# Altium schematic symbol library Tigershark3D.SchLib: 71 symbols
Pins are listed as number, name and electrical type; pins without a type are passive.

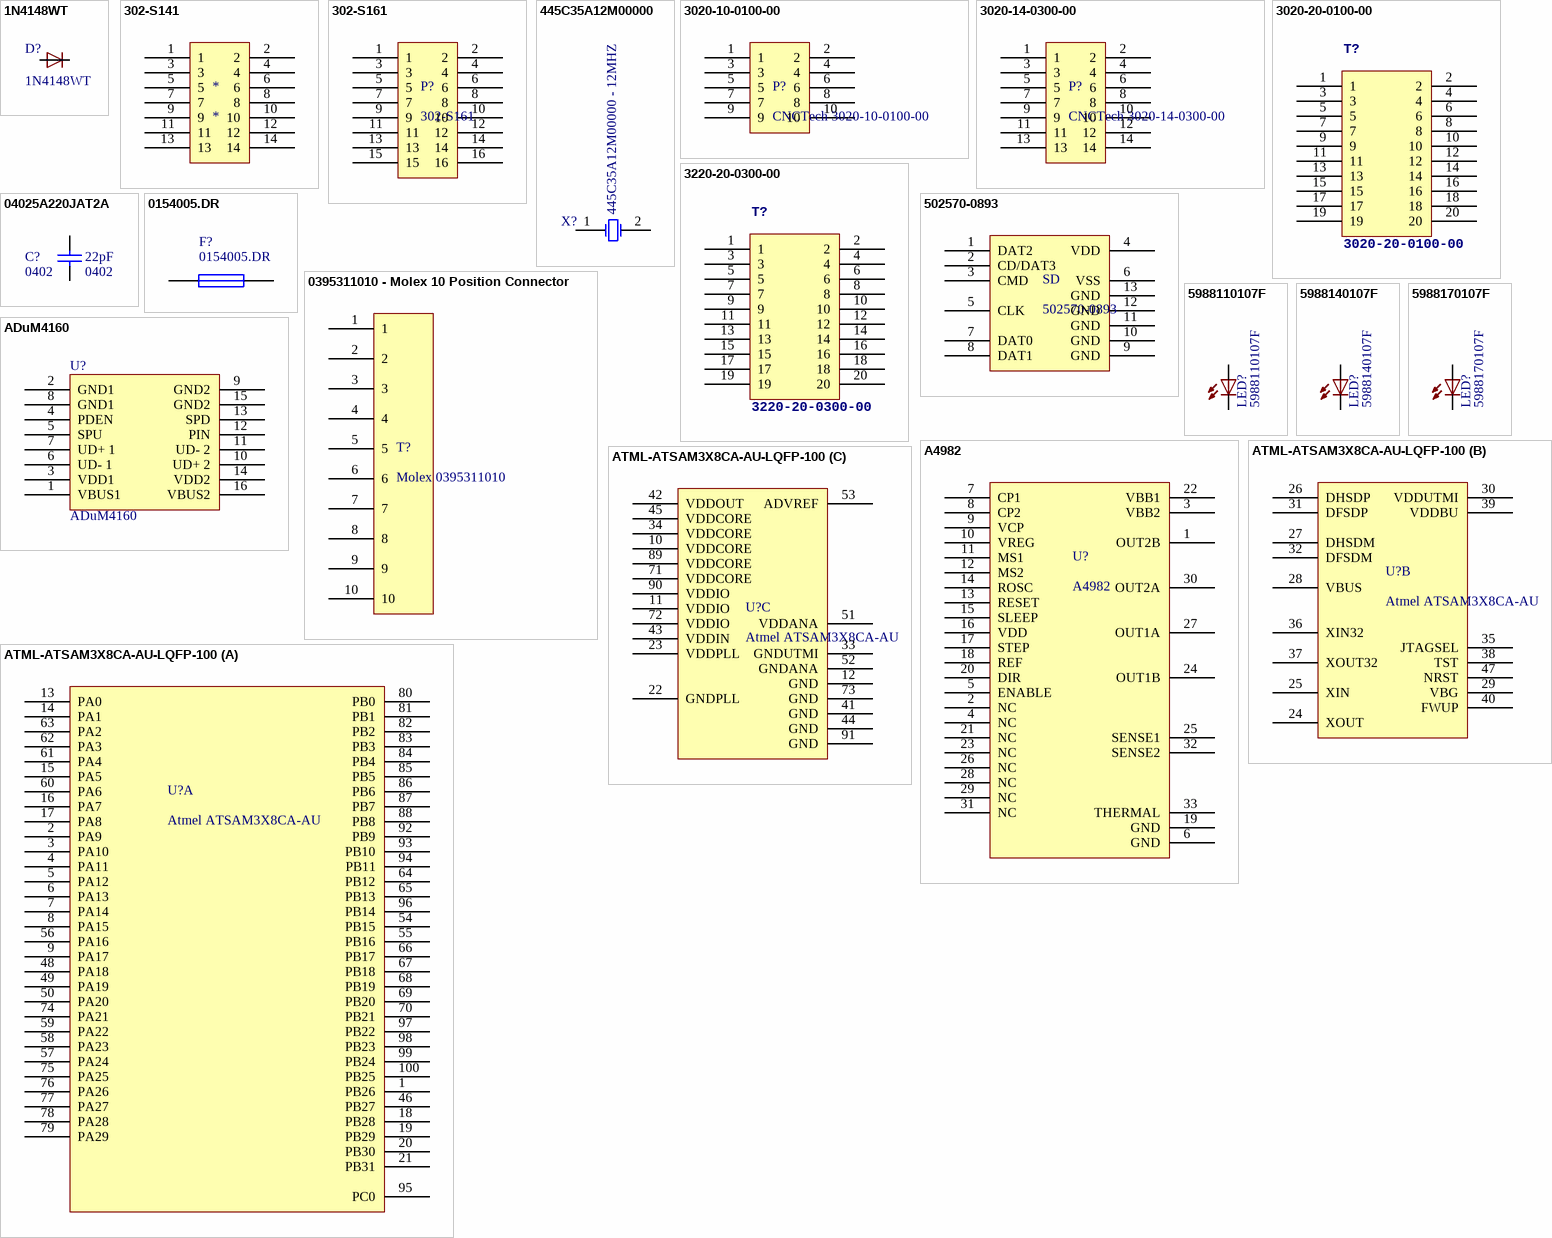
[diagram p0: symbols 1N4148WT to ATML-ATSAM3X8CA-AU-LQFP-100]

## 1N4148WT
designator D?
DIODE SOD523; LastRevisionNote: ImportComponents; Published: 23-Apr-2014; Publisher: UltiMachine; LastRevisionDate: 23-Apr-2014; Value: 1N4148WT
footprint SOD523
pins: A, C

## 302-S141
designator *
Manufacture Part #: 302-S141; Manufacturer: On Shore Technology Inc; Value: 2.54mm Pitch Spacing; Datasheet: http://www.on-shore.com/sites/default/files/manuals/302-sxxx.pdf; Digikey Part #: ED10522-ND; Pin Count: 14; Type: Throughhole connector; Mount Type: Through hole; Price: $0.32; Height: 9.1mm
footprint 302-S141 (2.54mm pitch 2X7 1 Pin Shrouded Connector)
pins: 1, 2, 3, 4, 5, 6, 7, 8, 9, 10, 11, 12, 13, 14

## 302-S161
designator P?
16 Pos 2.54mm Pin Connector Shrouded; Manufacturer: On Shore Technology Inc; Value: 2.54mm Pitch Spacing; Manufacture Part #: 302-S161; Datasheet: http://www.on-shore.com/sites/default/files/manuals/302-sxxx.pdf; Digikey Part #: ED10522-ND; Pin Count: 16; Type: Throughhole connector; Mount Type: Through hole; Price: $0.40; Height: 9.1mm
footprint 302-S161 (2.54mm pitch 2X8 1 Pin Shrouded Connector)
pins: 1, 2, 3, 4, 5, 6, 7, 8, 9, 10, 11, 12, 13, 14, 15, 16

## 445C35A12M00000
designator X?, comment 445C35A12M00000 - 12MHZ
445C35A12M00000 12MHZ Crystal Oscillator; Published: 8-Jun-2000; LatestRevisionDate: 17-Jul-2002; LatestRevisionNote: Re-released for DXP Platform.; PackageReference: R38; Publisher: Altium Limited; PackageDescription: Crystal, Thru-Hole; 2 Leads; Body 3.1 x 8.2 mm (Dia.xH); Manufacture Part #: *
footprint R38 (Crystal, Thru-Hole; 2 Leads; Body 3.1 x 8.2 mm (Dia.xH))
simulation model XTAL (Spice Subcircuit)
footprint 445C35A12M00000 (Crystal Oscillator)
pins: 1 OSC1, 2 OSC2

## 3020-10-0100-00
designator P?, comment CNCTech 3020-10-0100-00
Manufacture Part #: 3020-10-0100-00; Manufacturer: CNCTech; Type: SMD Shrouded Pin Header; Pin Count: 10; Price: $0.48; Digikey Part #: 1175-1609-ND
footprint 3020-10-0100-00 (2.54mm pitch 2X5 1 Pin Shrouded Connector)
pins: 1, 2, 3, 4, 5, 6, 7, 8, 9, 10

## 3020-14-0300-00
designator P?, comment CNCTech 3020-14-0300-00
Manufacture Part #: 3020-14-0300-00; Manufacturer: CNCTech; Type: SMD Shrouded Pin Header; Pin Count: 14; Price: $0.58; Digikey Part #: 1175-1622-ND
footprint 3020-14-0300-00 (CNC Tech 14 Pin 2.54mm shrouded SMT connector)
pins: 1, 2, 3, 4, 5, 6, 7, 8, 9, 10, 11, 12, 13, 14

## 3020-20-0100-00
designator T?
CNCTech 3020-20-0100-00; LastRevisionNote: ImportComponents; Published: 23-Apr-2014; Publisher: UltiMachine; LastRevisionDate: 23-Apr-2014; Manufacturer: CNCTech; Manufacture Part #: 3020-20-0100-00
footprint 3020-20-0100-00 (2.54mm pitch 2X10 1 Pin Shrouded Connector)
pins: 1, 2, 3, 4, 5, 6, 7, 8, 9, 10, 11, 12, 13, 14, 15, 16, 17, 18, 19, 20

## 3220-20-0300-00
designator T?
HDR 20pos Vert Dual Row SMT; Manufacture Part #: RSB39VTE-17; LastRevisionNote: ImportComponents; Published: 23-Apr-2014; Publisher: UltiMachine; LastRevisionDate: 23-Apr-2014
footprint 3220-20-0300-00 -AVR (CNC Tech 1.27mm Spacing 20 Pin Shrouded Connector Part# 3220-20-0300-00)
pins: 1, 2, 3, 4, 5, 6, 7, 8, 9, 10, 11, 12, 13, 14, 15, 16, 17, 18, 19, 20

## 04025A220JAT2A
designator C?, comment 0402  value 22pF
CAP CER 0402 22pF 50V 5% C0G; Manufacture Part #: 04025A220JAT2A; Manufacturer: AVX; Voltage: 16v; Published: 10 - Dec - 2014; LatestRevisionDate: 10 - Dec - 2014; LatestRevisionNote: Ultimachine Footprint Added; Publisher: Ultimachine; Component Type: Chip Capacitor; Part Description: CAP CER 0402 22pF 50V 5% C0G; Mounting Type: SMT 0402; Datasheet: http://www.farnell.com/datasheets/759117.pdf; Height: 0.25 ± 0.15mm; Tolerance: 5%; PackageReference: 0402
simulation model CAP (Semiconductor Capacitor)
signal-integrity model Cap Semi
footprint C0402
pins: 1, 2

## 0154005.DR
designator F?
0154005.DR LittleFuse; Manufacture: LittleFuse Inc.; Tolerance: 5A; Type: Fuse; Lead-Free: Yes; Voltage: 24V 5A; Datasheet: http://www.littelfuse.com/~/media/electronics/datasheets/fuses/littelfuse_fuse_154_154t_154l_154tl_datasheet.pdf.pdf; Mounting Type: SMD; Status: Active; Pin Count: 2; Height: 3.81mm; Cost: 0.98863
simulation model FUSE (Spice Subcircuit)
footprint 0154005.DR (LittleFuse 0154005.DR)
pins: 1, 2

## 502570-0893
designator SD
microSD 502570-0893 Molex Part
footprint 502570-0893 - Molex SD (Molex SD Card Footprint 502570-0893)
pins: 1 DAT2, 2 CD/DAT3, 3 CMD, 4 VDD, 5 CLK, 6 VSS, 7 DAT0, 8 DAT1, 9 GND, 10 GND, 11 GND, 12 GND, 13 GND

## 0395311010 - Molex 10 Position Connector
designator T?, comment Molex 0395311010
MSBTV10 10 port connector same as RAMBo; Manufacture: Molex; Mounting Type: Through Hole; Part Number: 0395311010; Datasheet: http://www.molex.com/pdm_docs/sd/395311002_sd.pdf; Status: Active; Pin Count: 10 , 5.08mm pitch; Height: *; Lead Free: YES; Cost: 2.46000
footprint MSTBV10
pins: 1, 2, 3, 4, 5, 6, 7, 8, 9, 10

## 5988110107F
designator LED?
LED 0805 Red; LastRevisionNote: ImportComponents; Published: 23-Apr-2014; Publisher: UltiMachine; LastRevisionDate: 23-Apr-2014; VALUE: 5988110107F
footprint LED2012120
pins: A, C

## 5988140107F
designator LED?
LED 0805 Yellow; LastRevisionNote: ImportComponents; Published: 23-Apr-2014; Publisher: UltiMachine; LastRevisionDate: 23-Apr-2014; VALUE: 5988140107F
footprint LED2012120
pins: A, C

## 5988170107F
designator LED?
LED 0805 Green; LastRevisionNote: ImportComponents; Published: 23-Apr-2014; Publisher: UltiMachine; LastRevisionDate: 23-Apr-2014; VALUE: 5988170107F
footprint LED2012120
pins: A, C

## A4982
designator U?
Alllegor A4982 Stepper Driver
footprint QFN50P508X508X100_HS-33N (QFN, 32-Leads, Body 5.08x5.08mm, Pitch 0.50mm, Thermal Pad 3.40x3.40mm, IPC Medium Density)
footprint QFN32_050050
pins: 1 OUT2B, 2 NC, 3 VBB2, 4 NC, 5 ENABLE, 6 GND, 7 CP1, 8 CP2, 9 VCP, 10 VREG, 11 MS1, 12 MS2, 13 RESET, 14 ROSC, 15 SLEEP, 16 VDD, 17 STEP, 18 REF, 19 GND, 20 DIR, 21 NC, 22 VBB1, 23 NC, 24 OUT1B, 25 SENSE1, 26 NC, 27 OUT1A, 28 NC, 29 NC, 30 OUT2A, 31 NC, 32 SENSE2, 33 THERMAL

## ADuM4160
designator U?
ADI iCoupler - USB 2.0 Galvanic Isolator
footprint ADUM4160BRWZ-RL (SOIC ADI iCouopler Package BRWZ-RL)
pins: 1 VBUS1, 2 GND1, 3 VDD1, 4 PDEN, 5 SPU, 6 UD- 1, 7 UD+ 1, 8 GND1, 9 GND2, 10 UD+ 2, 11 UD- 2, 12 PIN, 13 SPD, 14 VDD2, 15 GND2, 16 VBUS2

## ATML-ATSAM3X8CA-AU-LQFP-100
designator U?, comment Atmel ATSAM3X8CA-AU
Atmel ARM Cortex M3 MCU ATSAM3X8CA-AU; Manufacture: Atmel; Manufacture Part #: ATSAM3X8CA-AU; Type: ARM Cortex M3 Microcontroller; Mounting Type: SMT TQFP; Package Type: TQFP100; Datasheet: http://www.atmel.com/Images/doc11057s.pdf
footprint ATSAM3X8CA-AU TQFP100 (TSQFP, 100-Leads, Body 14.00x14.00mm, Pitch 0.50mm, IPC Medium Density)
part A pins: 1 PB26, 2 PA9, 3 PA10, 4 PA11, 5 PA12, 6 PA13, 7 PA14, 8 PA15, 9 PA17, 13 PA0, 14 PA1, 15 PA5, 16 PA7, 17 PA8, 18 PB28, 19 PB29, 20 PB30, 21 PB31, 46 PB27, 48 PA18, 49 PA19, 50 PA20, 54 PB15, 55 PB16, 56 PA16, 57 PA24, 58 PA23, 59 PA22, 60 PA6, 61 PA4, 62 PA3, 63 PA2, 64 PB12, 65 PB13, 66 PB17, 67 PB18, 68 PB19, 69 PB20, 70 PB21, 74 PA21, 75 PA25, 76 PA26, 77 PA27, 78 PA28, 79 PA29, 80 PB0, 81 PB1, 82 PB2, 83 PB3, 84 PB4, 85 PB5, 86 PB6, 87 PB7, 88 PB8, 92 PB9, 93 PB10, 94 PB11, 95 PC0, 96 PB14, 97 PB22, 98 PB23, 99 PB24, 100 PB25
part B pins: 24 XOUT, 25 XIN, 26 DHSDP, 27 DHSDM, 28 VBUS, 29 VBG, 30 VDDUTMI, 31 DFSDP, 32 DFSDM, 35 JTAGSEL, 36 XIN32, 37 XOUT32, 38 TST, 39 VDDBU, 40 FWUP, 47 NRST
part C pins: 10 VDDCORE, 11 VDDIO, 12 GND, 22 GNDPLL, 23 VDDPLL, 33 GNDUTMI, 34 VDDCORE, 41 GND, 42 VDDOUT, 43 VDDIN, 44 GND, 45 VDDCORE, 51 VDDANA, 52 GNDANA, 53 ADVREF, 71 VDDCORE, 72 VDDIO, 73 GND, 89 VDDCORE, 90 VDDIO, 91 GND

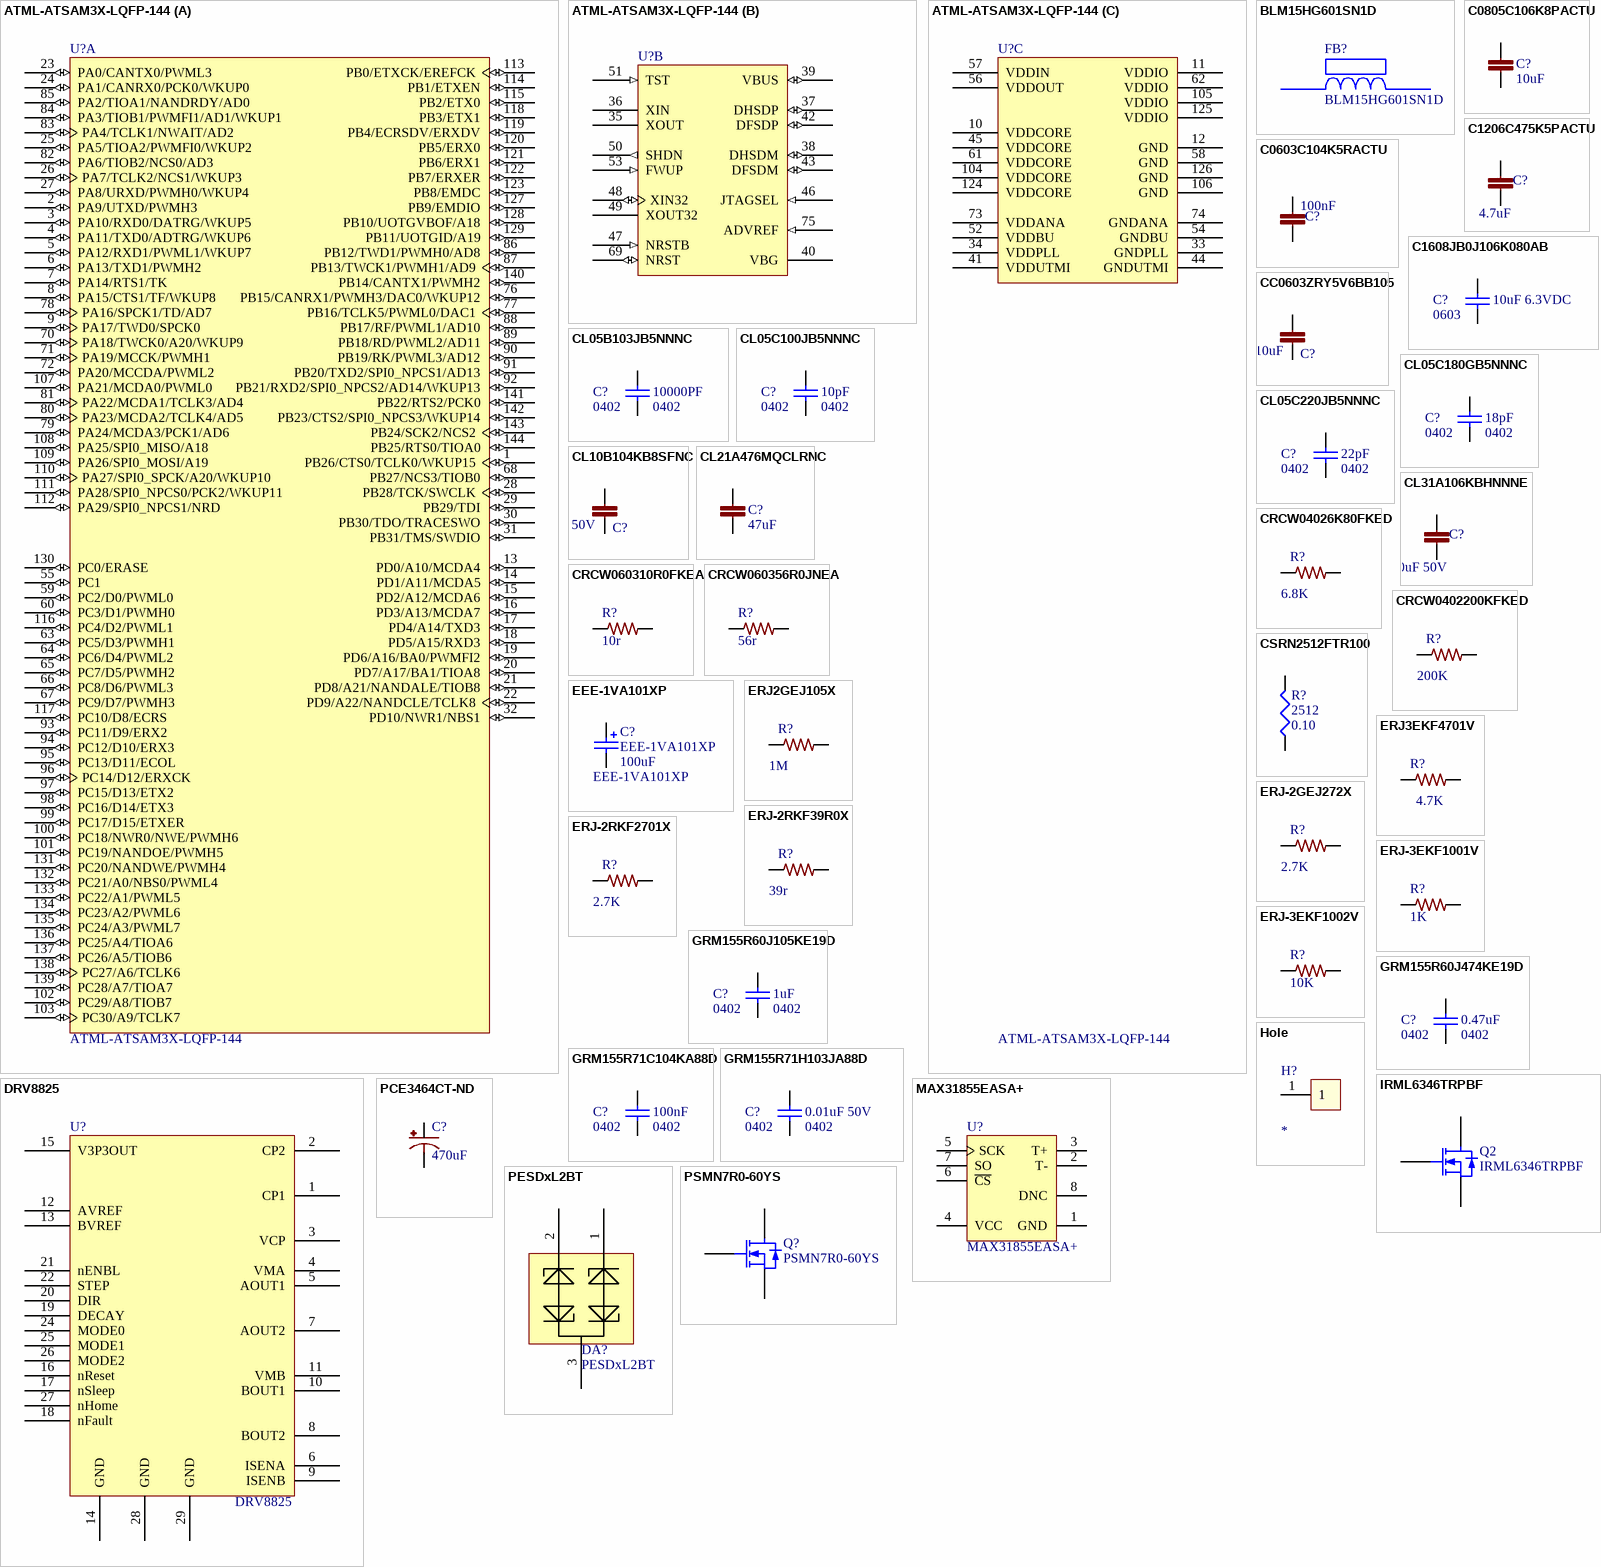
[diagram p1: symbols ATML-ATSAM3X-LQFP-144 to PSMN7R0-60YS]

## ATML-ATSAM3X-LQFP-144
designator U?
Part Number: ATSAM3X8E-AU; Manufacture: Atmel Corporation; Voltage: 3.3v; Status: Active; Pin Count: 144; Mounting Type: SMD TQFP; Datasheet: http://www.atmel.com/Images/doc11057.pdf; Height: 1.35mm; Tolerance: N/A; Type: ARM Cortex M3 MCU / Integrated Circuit; Lead Free: YES; Cost: 12
footprint LQFP144_N (Thin QFP, 144-Leads, Body 20x20mm, Pitch 0.5mm, IPC Medium Density)
part A pins: 1 PB26/CTS0/TCLK0/WKUP15 (io), 2 PA9/UTXD/PWMH3 (io), 3 PA10/RXD0/DATRG/WKUP5 (io), 4 PA11/TXD0/ADTRG/WKUP6 (io), 5 PA12/RXD1/PWML1/WKUP7 (io), 6 PA13/TXD1/PWMH2 (io), 7 PA14/RTS1/TK (io), 8 PA15/CTS1/TF/WKUP8 (io), 9 PA17/TWD0/SPCK0 (io), 13 PD0/A10/MCDA4 (io), 14 PD1/A11/MCDA5 (io), 15 PD2/A12/MCDA6 (io), 16 PD3/A13/MCDA7 (io), 17 PD4/A14/TXD3 (io), 18 PD5/A15/RXD3 (io), 19 PD6/A16/BA0/PWMFI2 (io), 20 PD7/A17/BA1/TIOA8 (io), 21 PD8/A21/NANDALE/TIOB8 (io), 22 PD9/A22/NANDCLE/TCLK8 (io), 23 PA0/CANTX0/PWML3 (io), 24 PA1/CANRX0/PCK0/WKUP0 (io), 25 PA5/TIOA2/PWMFI0/WKUP2 (io), 26 PA7/TCLK2/NCS1/WKUP3 (io), 27 PA8/URXD/PWMH0/WKUP4 (io), 28 PB28/TCK/SWCLK (io), 29 PB29/TDI (io), 30 PB30/TDO/TRACESWO (io), 31 PB31/TMS/SWDIO (io), 32 PD10/NWR1/NBS1 (io), 55 PC1 (io), 59 PC2/D0/PWML0 (io), 60 PC3/D1/PWMH0 (io), 63 PC5/D3/PWMH1 (io), 64 PC6/D4/PWML2 (io), 65 PC7/D5/PWMH2 (io), 66 PC8/D6/PWML3 (io), 67 PC9/D7/PWMH3 (io), 68 PB27/NCS3/TIOB0 (io), 70 PA18/TWCK0/A20/WKUP9 (io), 71 PA19/MCCK/PWMH1 (io), 72 PA20/MCCDA/PWML2 (io), 76 PB15/CANRX1/PWMH3/DAC0/WKUP12 (io), 77 PB16/TCLK5/PWML0/DAC1 (io), 78 PA16/SPCK1/TD/AD7 (io), 79 PA24/MCDA3/PCK1/AD6 (io), 80 PA23/MCDA2/TCLK4/AD5 (io), 81 PA22/MCDA1/TCLK3/AD4 (io), 82 PA6/TIOB2/NCS0/AD3 (io), 83 PA4/TCLK1/NWAIT/AD2 (io), 84 PA3/TIOB1/PWMFI1/AD1/WKUP1 (io), 85 PA2/TIOA1/NANDRDY/AD0 (io), 86 PB12/TWD1/PWMH0/AD8 (io), 87 PB13/TWCK1/PWMH1/AD9 (io), 88 PB17/RF/PWML1/AD10 (io), 89 PB18/RD/PWML2/AD11 (io), 90 PB19/RK/PWML3/AD12 (io), 91 PB20/TXD2/SPI0_NPCS1/AD13 (io), 92 PB21/RXD2/SPI0_NPCS2/AD14/WKUP13 (io), 93 PC11/D9/ERX2 (io), 94 PC12/D10/ERX3 (io), 95 PC13/D11/ECOL (io), 96 PC14/D12/ERXCK (io), 97 PC15/D13/ETX2 (io), 98 PC16/D14/ETX3 (io), 99 PC17/D15/ETXER (io), 100 PC18/NWR0/NWE/PWMH6 (io), 101 PC19/NANDOE/PWMH5 (io), 102 PC29/A8/TIOB7 (io), 103 PC30/A9/TCLK7 (io), 107 PA21/MCDA0/PWML0 (io), 108 PA25/SPI0_MISO/A18 (io), 109 PA26/SPI0_MOSI/A19 (io), 110 PA27/SPI0_SPCK/A20/WKUP10 (io), 111 PA28/SPI0_NPCS0/PCK2/WKUP11 (io), 112 PA29/SPI0_NPCS1/NRD (io), 113 PB0/ETXCK/EREFCK (io), 114 PB1/ETXEN (io), 115 PB2/ETX0 (io), 116 PC4/D2/PWML1 (io), 117 PC10/D8/ECRS (io), 118 PB3/ETX1 (io), 119 PB4/ECRSDV/ERXDV (io), 120 PB5/ERX0 (io), 121 PB6/ERX1 (io), 122 PB7/ERXER (io), 123 PB8/EMDC (io), 127 PB9/EMDIO (io), 128 PB10/UOTGVBOF/A18 (io), 129 PB11/UOTGID/A19 (io), 130 PC0/ERASE (io), 131 PC20/NANDWE/PWMH4 (io), 132 PC21/A0/NBS0/PWML4 (io), 133 PC22/A1/PWML5 (io), 134 PC23/A2/PWML6 (io), 135 PC24/A3/PWML7 (io), 136 PC25/A4/TIOA6 (io), 137 PC26/A5/TIOB6 (io), 138 PC27/A6/TCLK6 (io), 139 PC28/A7/TIOA7 (io), 140 PB14/CANTX1/PWMH2 (io), 141 PB22/RTS2/PCK0 (io), 142 PB23/CTS2/SPI0_NPCS3/WKUP14 (io), 143 PB24/SCK2/NCS2 (io), 144 PB25/RTS0/TIOA0 (io)
part B pins: 35 XOUT "Main Oscillator Output", 36 XIN "Main Oscillator Input", 37 DHSDP (io) "USB High Speed Data +", 38 DHSDM (io) "USB High Speed Data -", 39 VBUS (io) "USB Bus Power Measurement Mini Host/Device", 40 VBG "Bias Voltage Reference", 42 DFSDP (io) "USB Full Speed Data +", 43 DFSDM (io) "USB Full Speed Data -", 46 JTAGSEL (in) "JTAG Selection", 47 NRSTB (in) "Asynchronous Microcontroller Reset", 48 XIN32 (io) "Slow Clock Oscillator Input", 49 XOUT32 "Slow Clock Oscillator Output", 50 SHDN (out) "Shut-Down Control", 51 TST (in) "Test Mode Select", 53 FWUP (in) "Force Wake-up Input", 69 NRST (io) "Microcontroller Reset", 75 ADVREF (in) "ADC and DAC Reference"
part C pins: 10 VDDCORE (power) "Core Chip Power Supply", 11 VDDIO (power) "Peripherals I/O Lines Power Supply", 12 GND (power) "Ground", 33 GNDPLL (power) "PLL A, UPLL and Oscillator Ground", 34 VDDPLL (power) "PLL A, UPLL and Oscillator Power Supply", 41 VDDUTMI (power) "USB UTMI+ Interface Power Supply", 44 GNDUTMI (power) "USB UTMI+ Interface Ground", 45 VDDCORE (power) "Core Chip Power Supply", 52 VDDBU (power) "Backup I/O Lines Power Supply", 54 GNDBU (power) "Backup Ground", 56 VDDOUT (power) "Voltage Regulator Output", 57 VDDIN (power) "Voltage Regulator, ADC and DAC Power", 58 GND (power) "Ground", 61 VDDCORE (power) "Core Chip Power Supply", 62 VDDIO (power) "Peripherals I/O Lines Power Supply", 73 VDDANA (power) "ADC and DAC Analog Power Supply", 74 GNDANA (power) "ADC and DAC Analog Ground", 104 VDDCORE (power) "Core Chip Power Supply", 105 VDDIO (power) "Peripherals I/O Lines Power Supply", 106 GND (power) "Ground", 124 VDDCORE (power) "Core Chip Power Supply", 125 VDDIO (power) "Peripherals I/O Lines Power Supply", 126 GND (power) "Ground"

## BLM15HG601SN1D
designator FB?
footprint BLM18PG121SN1D (Chip Inductor, 2-Leads, Body 1.0x0.5mm, IPC Medium Density)
pins: 1, 2

## C0603C104K5RACTU
designator C?, comment 100nF
CAP CER 0603 100nF 50V 10% X7R; ManufacturerPartNumber: C0603C104K5RACTU; LastRevisionNote: ImportComponents; Published: 23-Apr-2014; Publisher: UltiMachine; LastRevisionDate: 23-Apr-2014; VALUE: 100nF
footprint C0603
signal-integrity model Model Name (Model Description)
simulation model Model Name (Model Description)
pins: 1, 2

## C0805C106K8PACTU
designator C?, comment 10uF
CAP CER 0805 10uF 10V 10% X5R; ManufacturerPartNumber: C0805C106K8PACTU; LastRevisionNote: ImportComponents; Published: 23-Apr-2014; Publisher: UltiMachine; LastRevisionDate: 23-Apr-2014; VALUE: 10uF
footprint C0805
signal-integrity model Model Name (Model Description)
simulation model Model Name (Model Description)
pins: 1, 2

## C1206C475K5PACTU
designator C?, comment 4.7uF
CAP CER 1206 4.7uF 50V 10% X5R; ManufacturerPartNumber: C1206C475K5PACTU; LastRevisionNote: ImportComponents; Published: 23-Apr-2014; Publisher: UltiMachine; LastRevisionDate: 23-Apr-2014; VALUE: 4.7uF
signal-integrity model Model Name (Model Description)
simulation model Model Name (Model Description)
footprint C1206
pins: 1, 2

## C1608JB0J106K080AB
designator C?, comment 0603  value 10uF 6.3VDC
CAP CER 10UF 6.3V 10% JB 0603; MFR Part #: C1608JB0J106K080AB; MFR: TDK; Voltage: 6.3VDC; Published: 10 - Dec - 2014; LatestRevisionDate: 10 - Dec - 2014; Component Type: Chip Capacitor; Part Description: CAP CER 10UF 6.3V 10% JB 0603; Mounting Type: SMT 0603; Datasheet: http://www.tdk.com/pdf/TDKMLCCCapRange.pdf; Height: 0.9mm; Tolerance: 10%; Digikey #: 445-11185-1-ND; PackageReference: 0402
simulation model CAP (Semiconductor Capacitor)
signal-integrity model Cap Semi
footprint C0603
pins: 1, 2

## CC0603ZRY5V6BB105
designator C?, comment 10uF
CAP CER 0603 1uF 10V Y5V; ManufacturerPartNumber: CC0603ZRY5V6BB105; LastRevisionNote: ImportComponents; Published: 23-Apr-2014; Publisher: UltiMachine; LastRevisionDate: 23-Apr-2014; VALUE: 10uF
footprint C0603
signal-integrity model Model Name (Model Description)
simulation model Model Name (Model Description)
pins: 1, 2

## CL05B103JB5NNNC
designator C?, comment 0402  value 10000PF
CAP CER 10000PF 50V 5% X7R 0402; Manufacture Part #: CL05B103JB5NNNC; Manufacturer: Samsung; Voltage: 16v; Published: 10 - Dec - 2014; LatestRevisionDate: 10 - Dec - 2014; LatestRevisionNote: Ultimachine Footprint Added; Publisher: Ultimachine; Component Type: Chip Capacitor; Part Description: CAP CER 10000PF 50V 5% X7R 0402; Mounting Type: SMT 0402; Datasheet: https://www.samsungsem.com/kr/front/downloadcms.do?path=/kr/support/product-search/mlcc/__icsFiles/afieldfile/2014/11/05&fileName=S_CL05B103JB5NNNC.pdf; Height: 0.25 ± 0.15mm; Tolerance: 5%; PackageReference: 0402
simulation model CAP (Semiconductor Capacitor)
signal-integrity model Cap Semi
footprint C0402
pins: 1, 2

## CL05C100JB5NNNC
designator C?, comment 0402  value 10pF
CAP CER 10PF 50V 5% NP0 0402; MFR Part #: CL05C100JB5NNNC; MFR: Samsung; Tolerance: 10%; Voltage: 50VDC; Published: 10 - Dec - 2014; LatestRevisionDate: 10 - Dec - 2014; LatestRevisionNote: Ultimachine Footprint Added; Publisher: Ultimachine; Component Type: Chip Capacitor; Part Description: CAP CER 10PF 50V 5% NP0 0402; Mounting Type: SMT 0402; Datasheet: http://www.samsungsem.com/kr/front/downloadcms.do?path=/kr/support/product-search/mlcc/__icsFiles/afieldfile/2014/11/05&fileName=S_CL05C100JB5NNNC.pdf; Height: 0.55mm; PackageReference: 0402
simulation model CAP (Semiconductor Capacitor)
signal-integrity model Cap Semi
footprint C0402
pins: 1, 2

## CL05C180GB5NNNC
designator C?, comment 0402  value 18pF
CAP CER 18PF 50V 2% NP0 0402; Manufacture Part #: CL05C180GB5NNNC; Manufacturer: Samsung; Published: 10 - Dec - 2014; LatestRevisionDate: 10 - Dec - 2014; LatestRevisionNote: Ultimachine Footprint Added; Publisher: Ultimachine; Component Type: Chip Capacitor; Part Description: CAP CER 18PF 50V 2% NP0 0402; Mounting Type: SMT 0402; Datasheet: http://www.samsungsem.com/kr/front/downloadcms.do?path=/kr/support/product-search/mlcc/__icsFiles/afieldfile/2014/11/05&fileName=S_CL05C180GB5NNNC.pdf; Height: 0.25 ± 0.15mm; Tolerance: 2%; Voltage: 50V; PackageReference: 0402
simulation model CAP (Semiconductor Capacitor)
signal-integrity model Cap Semi
footprint C0402
pins: 1, 2

## CL05C220JB5NNNC
designator C?, comment 0402  value 22pF
CAP CER 22PF 50V 5% NP0 0402; MFR Part #: CL05C220JB5NNNC; MFR: Samsung; Tolerance: 10%; Voltage: 50VDC; Published: 10 - Dec - 2014; LatestRevisionDate: 10 - Dec - 2014; LatestRevisionNote: Ultimachine Footprint Added; Publisher: Ultimachine; Component Type: Chip Capacitor; Part Description: CAP CER 22PF 50V 5% NP0 0402; Mounting Type: SMT 0402; Datasheet: http://www.samsungsem.com/kr/front/downloadcms.do?path=/kr/support/product-search/mlcc/__icsFiles/afieldfile/2014/11/05&fileName=S_CL05C220JB5NNNC.pdf; Height: 0.55mm; PackageReference: 0402
simulation model CAP (Semiconductor Capacitor)
signal-integrity model Cap Semi
footprint C0402
pins: 1, 2

## CL10B104KB8SFNC
designator C?, comment 0.1uF 50V
CAP CER 0.1UF 50V 10% X7R 0603; ManufacturerPartNumber: CL10B104KB8SFNC; LastRevisionNote: ImportComponents; Published: 23-Apr-2014; Publisher: UltiMachine; LastRevisionDate: 23-Apr-2014; VALUE: 0.1uF 50V
footprint C0603
signal-integrity model Model Name (Model Description)
simulation model Model Name (Model Description)
pins: 1, 2

## CL21A476MQCLRNC
designator C?, comment 47uF
CAP CER 47UF 6.3V 20% X5R 0805; Manufacturer: Samsung; ManufacturerPartNumber: CL21A476MQCLRNC; LastRevisionNote: ImportComponents; Published: 10 - may 2015; Publisher: UltiMachine; LastRevisionDate: 10 may 2015; VALUE: 47uF
footprint C0805
signal-integrity model Model Name (Model Description)
simulation model Model Name (Model Description)
pins: 1, 2

## CL31A106KBHNNNE
designator C?, comment 10uF 50V
CAP CER 10UF 50V 10% X5R 1206; Manufacturer: Samsung; ManufacturerPartNumber: CL31A106KBHNNNE; LastRevisionNote: ImportComponents; Published: 25-mar-2015; Publisher: UltiMachine; LastRevisionDate: 25-mar-2015; VALUE: 10uF 50V
signal-integrity model Model Name (Model Description)
simulation model Model Name (Model Description)
footprint C1206
pins: 1, 2

## CRCW04026K80FKED
designator R?, comment 6.8K
RES SMD 6.8K OHM 1% 1/16W 0402; Manufacturer: Vishay Dale; ManufacturerPartNumber: CRCW04026K80FKED; LastRevisionNote: ImportComponents; Published: 23-Apr-2014; Publisher: UltiMachine; LastRevisionDate: 23-Apr-2014; Height: 0.4mm; VALUE: 6.8K
footprint R0402
signal-integrity model Model Name (Model Description)
simulation model Model Name (Model Description)
pins: 1, 2

## CRCW060310R0FKEA
designator R?, comment 10r
RES 0603 10r 100mW 1%; ManufacturerPartNumber: CRCW060310R0FKEA; LastRevisionNote: ImportComponents; Published: 23-Apr-2014; Publisher: UltiMachine; LastRevisionDate: 23-Apr-2014; VALUE: 10r
footprint R0603
signal-integrity model Model Name (Model Description)
simulation model Model Name (Model Description)
pins: 1, 2

## CRCW060356R0JNEA
designator R?, comment 56r
RES 0603 56r 100mW 5%; ManufacturerPartNumber: CRCW060356R0JNEA; LastRevisionNote: ImportComponents; Published: 23-Apr-2014; Publisher: UltiMachine; LastRevisionDate: 23-Apr-2014; VALUE: 56r
footprint R0603
signal-integrity model Model Name (Model Description)
simulation model Model Name (Model Description)
pins: 1, 2

## CRCW0402200KFKED
designator R?, comment 200K
RES 0402 200K; ManufacturerPartNumber: CRCW0402200KFKED; LastRevisionNote: ImportComponents; Published: 23-Apr-2014; Publisher: UltiMachine; LastRevisionDate: 23-Apr-2014; VALUE: 200K
footprint R0402
signal-integrity model Model Name (Model Description)
simulation model Model Name (Model Description)
pins: 1, 2

## CSRN2512FTR100
designator R?, comment 2512  value 0.10
RES SMD 0.1 OHM 1% 2W 2512; MFR: Stackpole ELectronics Inc; MFR #: CSRN2512FTR100; PackageReference: 2512; Digikey #: CSRN2512FTR100TR-ND; PDF: http://www.seielect.com/catalog/SEI-CSR_CSRN.pdf
simulation model RESISTOR (Resistor)
signal-integrity model Res
footprint 2512R-0.55 (2512 Resistor 6.35mm x 3.2mm x 0.55mm)
pins: 1, 2

## DRV8825
designator U?
DRV8825 Ti Stepper Driver; Part Number: DRV8825PWPR; Manufacture: Texas Instruments; Mountining Type: SMD - Ti PowerPAD Package; Voltage: 8.2-45VDC; Cost (1000 qty): 2.25; Status: In-Production; Pins: 28 Pins and one Exposed Pad; Datasheet: http://www.ti.com/lit/gpn/drv8825; Height: 1.2mm; Tolerance: N/A; Type: Stepper Driver - Integrated Circuit; Lead Free: YES
footprint DRV8825PWPR (PowerPAD (HTSSOP) - PWP)
pins: 1 CP1, 2 CP2, 3 VCP, 4 VMA, 5 AOUT1, 6 ISENA, 7 AOUT2, 8 BOUT2, 9 ISENB, 10 BOUT1, 11 VMB, 12 AVREF, 13 BVREF, 14 GND, 15 V3P3OUT, 16 nReset, 17 nSleep, 18 nFault, 19 DECAY, 20 DIR, 21 nENBL, 22 STEP, 23 NC hidden, 24 MODE0, 25 MODE1, 26 MODE2, 27 nHome, 28 GND, 29 GND

## EEE-1VA101XP
designator C?  value 100uF
CAP ALUM 100UF 35V 20% SMD; Manufacture: Panasonic; Digikey Part #: PCE3951CT-ND; Price: $0.63; Mount Type: SMT Panasonic VS D Series; Status: Active; Height: 7.70mm; Datasheet: http://industrial.panasonic.com/www-cgi/jvcr13pz.cgi?E+PZ+3+ABA0002+EEE1VA101XP+7+WW; Manufacture Part #: EEE-1VA101XP
simulation model CAP (Capacitor)
signal-integrity model Cap Pol
footprint EEE-1VA101XP (Panasonic VS D EEE-1VA101XP)
pins: 1, 2
1 alternate drawing of the same symbol

## ERJ2GEJ105X
designator R?, comment 1M
RES 0402 1M 100mW 5%; ManufacturerPartNumber: ERJ2GEJ105X; LastRevisionNote: ImportComponents; Published: 23-Apr-2014; Publisher: UltiMachine; LastRevisionDate: 23-Apr-2014; VALUE: 1M
footprint R0402
signal-integrity model Model Name (Model Description)
simulation model Model Name (Model Description)
pins: 1, 2

## ERJ3EKF4701V
designator R?, comment 4.7K
RES 0603 4.7K 100mW 1%; ManufacturerPartNumber: ERJ3EKF4701V; LastRevisionNote: ImportComponents; Published: 23-Apr-2014; Publisher: UltiMachine; LastRevisionDate: 23-Apr-2014; VALUE: 4.7K
footprint R0603
signal-integrity model Model Name (Model Description)
simulation model Model Name (Model Description)
pins: 1, 2

## ERJ-2GEJ272X
designator R?, comment 2.7K
RES SMD 2.7K OHM 5% 1/10W 0402; ManufacturerPartNumber: ERJ-2GEJ272X; LastRevisionNote: ImportComponents; Published: 23-Apr-2014; Publisher: Adam Vadala-Roth; LastRevisionDate: 23-Apr-2014; Digikey #: P2.7KJCT-ND; Tolerance: 5%; Mounting type: SMD; VALUE: 2.7K
footprint R0402
signal-integrity model Model Name (Model Description)
simulation model Model Name (Model Description)
pins: 1, 2

## ERJ-2RKF39R0X
designator R?, comment 39r
RES SMD 39 OHM 1% 1/10W 0402; Manufacturer: Panasonic; ManufacturerPartNumber: ERJ-2RKF39R0X; LastRevisionNote: ImportComponents; Published: 23-Apr-2014; Publisher: UltiMachine; LastRevisionDate: 23-Apr-2014; Height: 0.4mm; VALUE: 39r
footprint R0402
signal-integrity model Model Name (Model Description)
simulation model Model Name (Model Description)
pins: 1, 2

## ERJ-2RKF2701X
designator R?, comment 2.7K
RES SMD 2.7K OHM 1% 1/10W 0402; Manufacturer: Panasonic; ManufacturerPartNumber: ERJ2GEJ105X; LastRevisionNote: ImportComponents; Published: 23-Apr-2014; Publisher: Adam; LastRevisionDate: 23-Apr-2014; VALUE: 2.7K
footprint R0402
signal-integrity model Model Name (Model Description)
simulation model Model Name (Model Description)
pins: 1, 2

## ERJ-3EKF1001V
designator R?, comment 1K
RES 0603 1K 100mW 1%; ManufacturerPartNumber: ERJ-3EKF1001V; LastRevisionNote: ImportComponents; Published: 23-Apr-2014; Publisher: UltiMachine; LastRevisionDate: 23-Apr-2014; VALUE: 1K
footprint R0603
signal-integrity model Model Name (Model Description)
simulation model Model Name (Model Description)
pins: 1, 2

## ERJ-3EKF1002V
designator R?, comment 10K
RES 0603 10K 100mW 1%; ManufacturerPartNumber: ERJ-3EKF1002V; LastRevisionNote: ImportComponents; Published: 23-Apr-2014; Publisher: UltiMachine; LastRevisionDate: 23-Apr-2014; VALUE: 10K
footprint R0603
signal-integrity model Model Name (Model Description)
simulation model Model Name (Model Description)
pins: 1, 2

## GRM155R60J105KE19D
designator C?, comment 0402  value 1uF
CAP CER 1UF 6.3V 10% X5R 0402; MFR Part #: GRM155R60J105KE19D; MFR: Murata; Voltage: 6.3VDC; Published: 10 - Dec - 2014; LatestRevisionDate: 10 - Dec - 2014; LatestRevisionNote: Ultimachine Footprint Added; Publisher: Ultimachine; Component Type: Chip Capacitor; Part Description: CAP CER 1UF 6.3V 10% X5R 0402; Mounting Type: SMT 0402; Datasheet: http://psearch.murata.com/capacitor/product/GRM155R60J105KE19%23.pdf; Height: 0.55mm; Tolerance: 10%; PackageReference: 0402
simulation model CAP (Semiconductor Capacitor)
signal-integrity model Cap Semi
footprint C0402
pins: 1, 2

## GRM155R60J474KE19D
designator C?, comment 0402  value 0.47uF
0.47uF 6.3v C0402 - GRM155R60J474KE19D; MFR: Murata; Part Description: CAP CER 0.47UF 6.3V 10% X5R 0402; Tolerance: 10%; Voltage: 6.3VDC; Published: 10 - Dec - 2014; LatestRevisionDate: 10 - Dec - 2014; LatestRevisionNote: Ultimachine Footprint Added; Publisher: Ultimachine; Component Type: Chip Capacitor; MFR Part #: GRM155R60J474KE19D; Mounting Type: SMT 0402; Datasheet: http://search.murata.co.jp/Ceramy/image/img/A01X/G101/ENG/GRM155R60J474KE19-01.pdf; Height: 0.5 ±0.05mm; PackageReference: 0402
simulation model CAP (Semiconductor Capacitor)
signal-integrity model Cap Semi
footprint C0402
pins: 1, 2

## GRM155R71C104KA88D
designator C?, comment 0402  value 100nF
CAP CER 0.1UF (100nF) 16V 10% X7R 0402; MFR Part #: GRM155R71C104KA88D; MFR: Murata; Part Description: CAP CER 0.1UF 16V 10% X7R 0402; Published: 10 - Dec - 2014; LatestRevisionDate: 10 - Dec - 2014; LatestRevisionNote: Ultimachine Footprint Added; Publisher: Ultimachine; Component Type: Chip Capacitor; Mounting Type: SMT 0402; Datasheet: http://psearch.murata.com/capacitor/product/GRM155R71C104KA88%23.pdf; Height: 0.5 ±0.05mm; Tolerance: 10%; Voltage: 16v; PackageReference: 0402
simulation model CAP (Semiconductor Capacitor)
signal-integrity model Cap Semi
footprint C0402
pins: 1, 2

## GRM155R71H103JA88D
designator C?, comment 0402  value 0.01uF 50V
CAP CER 10000PF 50V X7R 0402; MFR Part #: GRM155R71H103JA88D; MFR: Murata; Tolerance: 10%; Voltage: 6.3VDC; Published: 10 - Dec - 2014; LatestRevisionDate: 10 - Dec - 2014; LatestRevisionNote: Ultimachine Footprint Added; Publisher: Ultimachine; Component Type: Chip Capacitor; Part Description: CAP CER 10000PF 50V X7R 0402; Mounting Type: SMT 0402; Datasheet: http://search.murata.co.jp/Ceramy/image/img/A01X/G101/ENG/GRM155R71H103JA88-01.pdf; Height: 0.5 ±0.05mm; Digikey #: 490-7763-1-ND; PackageReference: 0402
simulation model CAP (Semiconductor Capacitor)
signal-integrity model Cap Semi
footprint C0402
pins: 1, 2

## Hole
designator H?  (no BOM)
footprint Wave_hole_3x7-singleSided
pins: 1 (power)

## IRML6346TRPBF
designator Q2
N-Channel MOSFET; Published: 8-Jun-2000; LatestRevisionDate: 17-Jul-2002; LatestRevisionNote: Re-released for DXP Platform.; PackageVersion: 1995/1996; PackageReference: E3; Publisher: Altium Limited; PackageDescription: TO, Flat Index; 3 In-Line, Axial Leads; Body Dia. 4.6mm; Lead Dia. 0.5 mm (max)
simulation model NMOS (MOSFET-N)
footprint SOT23-3
pins: 1 G, 2 S, 3 D

## MAX31855EASA+
designator U?
Cold Junction Compensated Thermocouple to Digital Converter, 14 Bits Temperature Resolution, -40 to 125 degC, 8-Pin SOIC (S8+4), Pb-Free; Functions: Thermocouple-to-Digital Converter; Interface: SPI; Parasite Pwr.: No; DatasheetVersion: Rev. 2; PackageVersion: Rev. D, 10/2012; PackageReference: S8+4; PackageDescription: 8-Pin Small-Outline IC, Narrow, Body 3.9 x 4.9 mm, Pitch 1.27 mm; Supplier 1: Digi-Key; Supplier Part Number 1: MAX31855EASA+-ND; Supplier 2: Mouser; Supplier Part Number 2: 700-MAX31855EASA+; Generic Part Number: MAX31855; Mounting Technology: Surface Mount; Code_JEDEC: MS-012; PartNumber: MAX31855EASA+; ComponentLink1Description: Manufacturer URL; ComponentLink1URL: http://www.maximintegrated.com/; ComponentLink2Description: Datasheet; ComponentLink2URL: http://datasheets.maximintegrated.com/en/ds/MAX31855.pdf; ComponentLink3Description: Package Specification; ComponentLink3URL: http://pdfserv.maximintegrated.com/package_dwgs/21-0041.PDF
footprint Model Name (Footprint not found)
footprint MAXM-S8+4_N (SOIC, 8-Leads, Body 4.9x3.9mm, Pitch 1.27mm, IPC Medium Density)
pins: 1 GND "Ground", 2 T- "Thermocouple Input. See Table 1. Do not connect to GND.", 3 T+ "Thermocouple Input. See Table 1.", 4 VCC (power) "Power-Supply Voltage", 5 SCK "Serial-Clock Input", 6 ~{CS} "Active-Low Chip Select. Set C\S\ low to enable the serial interface.", 7 SO "Serial-Data Output", 8 DNC "Do Not Connect"

## PCE3464CT-ND
designator C?, comment 470uF
CAP ALUM 470UF 35V 20% SMD; Manufacturer: Panasonic; MFR #: EEV-FK1V471Q; LastRevisionNote: ImportComponents; Published: 23-Apr-2014; Publisher: Ultimachine; LastRevisionDate: 23-Apr-2014; VALUE: 470uF; Digikey Part #: PCE3464CT-ND
footprint Panasonic Cap 12.5mm x 12.5mm
pins: 1 +, 2 -

## PESDxL2BT
designator DA?
PESDxL2BT TVS Diode Array 2x
footprint SOT95P230X110-3N (SOT23, 3-Leads, Body 2.90x2.30mm, Pitch 0.95mm, IPC Medium Density)
pins: 1, 2, 3

## PSMN7R0-60YS
designator Q?
N-Channel MOSFET; Manufacture: NXP; Type: Power MOSFET - SMD Transistor; Lead-Free: YES; Voltage: 60VDC Max; Part Number: PSMN7R0-60YS; Status: Active; Pins: 4 pins 1 Pad; Mounting Type: SMD; Datasheet: http://www.nxp.com/documents/data_sheet/PSMN7R0-60YS.pdf; Height: 1.2mm; Tolerance: N/A; Cost: *
simulation model NMOS (MOSFET-N)
footprint PSMN7R0-60YS (TO, 5-Pads, Body 5.15x5.86mm (max), IPC Medium Density)
pins: 1 S hidden to GND, 2 S hidden to GND, 3 S, 4 G, 5 D

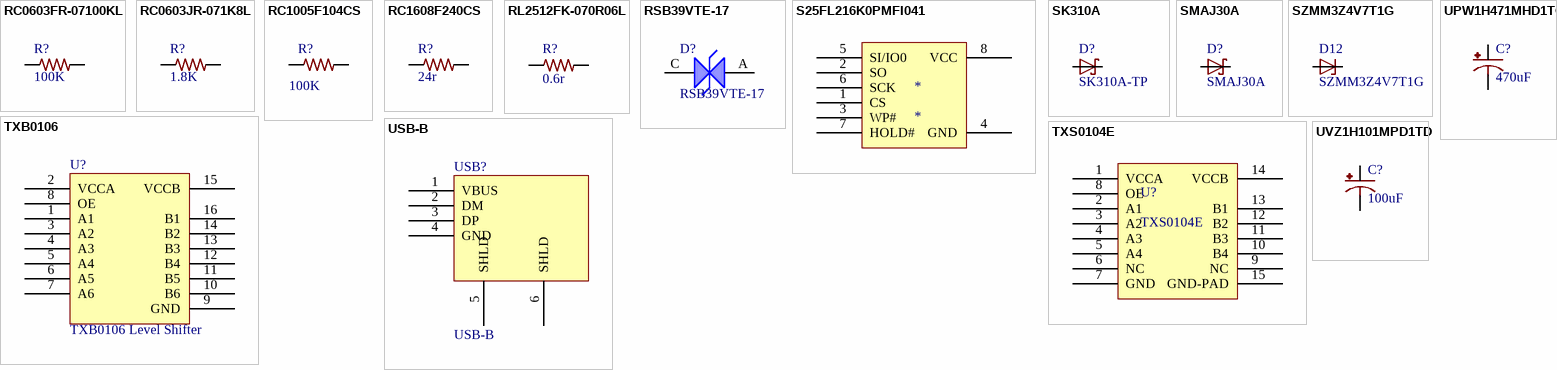
[diagram p2: symbols RC0603FR-07100KL to UVZ1H101MPD1TD]

## RC0603FR-07100KL
designator R?, comment 100K
RES 100K OHM 1/10W 1% 0603 SMD; ManufacturerPartNumber: RC0603FR-07100KL; LastRevisionNote: ImportComponents; Published: 23-Apr-2014; Publisher: UltiMachine; LastRevisionDate: 23-Apr-2014; VALUE: 100K
footprint R0603
signal-integrity model Model Name (Model Description)
simulation model Model Name (Model Description)
pins: 1, 2

## RC0603JR-071K8L
designator R?, comment 1.8K
RES 0603 1.8K 100mW 5%; ManufacturerPartNumber: RC0603JR-071K8L; LastRevisionNote: ImportComponents; Published: 23-Apr-2014; Publisher: UltiMachine; LastRevisionDate: 23-Apr-2014; VALUE: 1.8K
footprint R0603
signal-integrity model Model Name (Model Description)
simulation model Model Name (Model Description)
pins: 1, 2

## RC1005F104CS
designator R?, comment 100K
RES SMD 100K OHM 1% 1/16W 0402; Manufacturer: Samsung; ManufacturerPartNumber: RC1005F104CS; LastRevisionNote: ImportComponents; Digilkey #: 1276-3432-1-ND; Published: 23-Apr-2014; Publisher: UltiMachine; LastRevisionDate: 23-Apr-2014; VALUE: 100K
footprint R0402
signal-integrity model Model Name (Model Description)
simulation model Model Name (Model Description)
pins: 1, 2

## RC1608F240CS
designator R?, comment 24r
RES SMD 24 OHM 1% 1/10W 0603; Manufacturer: Samsung; ManufacturerPartNumber: RC0603FR-07100KL; LastRevisionNote: ImportComponents; Published: 23-Apr-2014; Publisher: UltiMachine; LastRevisionDate: 23-Apr-2014; VALUE: 24r; PDF: http://www.samsungsem.com/global/support/library/product-catalog/__icsFiles/afieldfile/2015/01/12/CHIP_RESISTOR_150112_1.pdf
footprint R0603
signal-integrity model Model Name (Model Description)
simulation model Model Name (Model Description)
pins: 1, 2

## RL2512FK-070R06L
designator R?, comment 0.6r
RES 0.06 OHM 1W 1% 2512 SMD; ManufacturerPartNumber: RL2512FK-070R06L; LastRevisionNote: ImportComponents; Published: 23-Apr-2014; Publisher: UltiMachine; LastRevisionDate: 23-Apr-2014; VALUE: 0.6r
signal-integrity model Model Name (Model Description)
simulation model Model Name (Model Description)
footprint 2512R-0.55 (2512 Resistor 6.35mm x 3.2mm x 0.55mm)
pins: 1, 2

## RSB39VTE-17
designator D?
DIODE TVS
footprint SOD323-R
pins: A (power), C (power)

## S25FL216K0PMFI041
designator *
Manufacture Part #: S25FL216K0PMFI041; Manufacture: Spansion; Active: Yes; Mounting Type: SMD; Type: SOIC; Datasheet: http://www.spansion.com/Support/Datasheets/S25FL216K_00.pdf; Digikey Part NUmber: 1274-1052-ND; Price: $0.35
footprint S25FL216K0PMFI041 (SOIC, 8-Leads, Body 4.90x3.90mm, Pitch 1.27mm, IPC Medium Density)
pins: 1 CS, 2 SO, 3 WP#, 4 GND, 5 SI/IO0, 6 SCK, 7 HOLD#, 8 VCC

## SK310A
designator D?, comment SK310A-TP
DIODE Schottky 3A SMA; ManufacturerPartNumber: SK310A; LastRevisionNote: ImportComponents; LastRevisionDate: 23-Apr-2014; Published: 23-Apr-2014; Publisher: UltiMachine
footprint SMA-SM
pins: A, C

## SMAJ30A
designator D?
DIODE TVS 30V SMA; LastRevisionNote: ImportComponents; Published: 23-Apr-2014; Publisher: UltiMachine; LastRevisionDate: 23-Apr-2014; ManufacturerPartNumber: SMAJ30A
footprint SMA-SM
pins: A, C

## SZMM3Z4V7T1G
designator D12
Z-Diode; Manufacturer: Fairchild; LastRevisionNote: ImportComponents; Published: 23-Apr-2014; Publisher: UltiMachine; LastRevisionDate: 23-Apr-2014
footprint SOD323-R
pins: A, C

## TXB0106
designator U?, comment TXB0106 Level Shifter
TXB0106 - Bidriectional Opendrain/pushpull level shift
footprint TSOP65P640X120-16N (TSOP, 16-Leads, Body 5.00x4.40mm, Pitch 0.65mm, IPC Medium Density)
pins: 1 A1, 2 VCCA, 3 A2, 4 A3, 5 A4, 6 A5, 7 A6, 8 OE, 9 GND, 10 B6, 11 B5, 12 B4, 13 B3, 14 B2, 15 VCCB, 16 B1

## TXS0104E
designator U?
TXS0104E - Bidriectional Opendrain/pushpull level shift; MFR: Texas Instruments; MFR Part #: TXS0104ERGYR; Active: Yes; Digikey Part #: 296-20698-2-ND; Height: 1mm; mounting Type: SMD; Datasheet: http://www.ti.com/lit/ds/symlink/txs0104e.pdf; Lead Free ?: RhoS
footprint RGY  (S-PVQFN-N14) (QFN, 16-Leads, Body 3.50x3.50mm, Pitch 0.50mm, Thermal Pad 2.00x2.00mm, IPC Medium Density)
pins: 1 VCCA, 2 A1, 3 A2, 4 A3, 5 A4, 6 NC, 7 GND, 8 OE, 9 NC, 10 B4, 11 B3, 12 B2, 13 B1, 14 VCCB, 15 GND-PAD

## UPW1H471MHD1TO
designator C?, comment 470uF
CAP ALU 470uF 50V 20%; ManufacturerPartNumber: UPW1H471MHD1TO; LastRevisionNote: ImportComponents; Published: 23-Apr-2014; Publisher: UltiMachine; LastRevisionDate: 23-Apr-2014; VALUE: 470uF
footprint C12,5-5
pins: 1 +, 2 -

## USB-B
designator USB?
footprint PN61729
pins: 1 VBUS, 2 DM, 3 DP, 4 GND, 5 SHLD, 6 SHLD

## UVZ1H101MPD1TD
designator C?, comment 100uF
CAP ALU 100uF 50V 20% 105C; ManufacturerPartNumber: UVZ1H101MPD1TD; LastRevisionNote: ImportComponents; Published: 23-Apr-2014; Publisher: UltiMachine; LastRevisionDate: 23-Apr-2014; VALUE: 100uF
footprint C3,5-8
pins: 1 +, 2 -